# EAGLE library part MCP4662-104E_UN (library edrtech_lib)
Digital Potentiometer 256 Step 100kOhm Source: Datasheet <http://ww1.microchip.com/downloads/en/DeviceDoc/22107B.pdf>
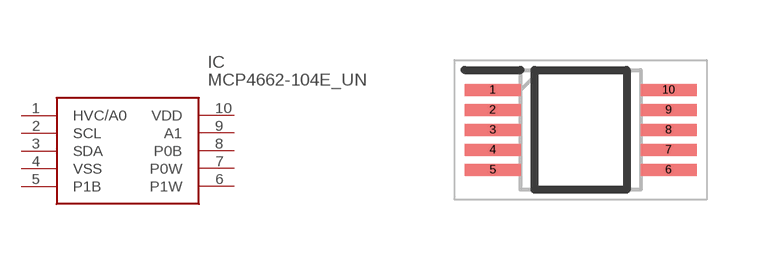
[diagram p56: symbol with the pads of SOP50P490X110-10N; footprint SOP50P490X110-10N]

Designator prefix IC

## MCP4662-104E_UN (ARROW_PART_NUMBER: MCP4662-104E/UN; ARROW_PRICE-STOCK: https://www.arrow.com/en/products/mcp4662-104eun/microchip-technology; DESCRIPTION: Digital Potentiometer 256 Step 100kOhm; HEIGHT: 1.1mm; MANUFACTURER_NAME: Microchip; MANUFACTURER_PART_NUMBER: MCP4662-104E/UN; MOUSER_PART_NUMBER: 579-MCP4662-104E/UN; MOUSER_PRICE-STOCK: https://www.mouser.co.uk/ProductDetail/Microchip-Technology/MCP4662-104E-UN?qs=hH%252BOa0VZEiCZjt47Gvjv6g%3D%3D)  [SOP50P490X110-10N]
1  HVC/A0
2  SCL
3  SDA
4  VSS
5  P1B
6  P1W
7  P0W
8  P0B
9  A1
10  VDD

## Footprint SOP50P490X110-10N (pad centres in mm)
MCP4662-104E/UN
smd 1.4 x 0.3: 1 -2.2,1; 2 -2.2,0.5; 3 -2.2,0; 4 -2.2,-0.5; 5 -2.2,-1; 6 2.2,-1; 7 2.2,-0.5; 8 2.2,0; 9 2.2,0.5; 10 2.2,1